# EAGLE library part TEL-5-SINGLE (library traco)
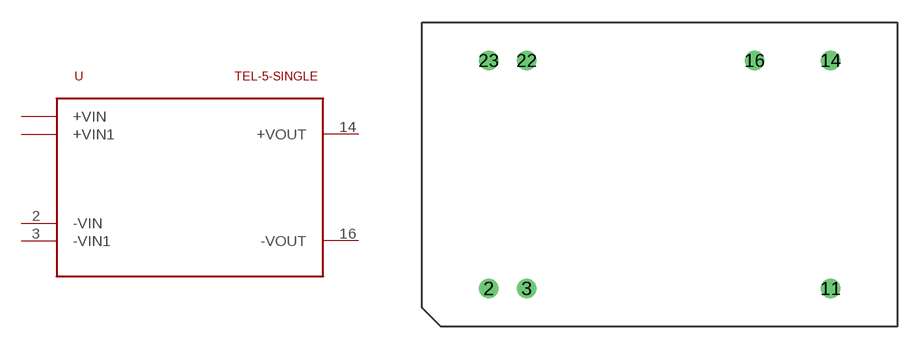
[diagram p0: symbol with the pads of TEL-5-SINGLE; footprint TEL-5-SINGLE]

Designator prefix -

## TEL-5-SINGLE  [TEL-5-SINGLE]
2  -VIN
3  -VIN1
14  +VOUT
16  -VOUT
22  +VIN
23  +VIN1

## Footprint TEL-5-SINGLE (pad centres in mm)
drill 0.8: 2 5.08,2.54; 3 7.62,2.54; 11 27.94,2.54; 14 27.94,17.78; 16 22.86,17.78; 22 7.62,17.78; 23 5.08,17.78